# EAGLE library part 62001021821 (library Board-to-Board (rev18a))
WR-PHD 2.00mm Dual Socket Header, 10 Pins=>Code : Con_BTB_SHD_2.00_2_62001021821 <http://katalog.we-online.de/media/thumbs2/eican/thb_Con_BTB_SHD_2.00_2_6200xx21821_pf2.jpg> Details see: http://katalog.we-online.de/en/em/PHD_2_00_DUAL_SOCKET_HEADER_6200XX21821 Created 2014-06-03, Karrer Zheng 2014 (C) Würth Elektronik
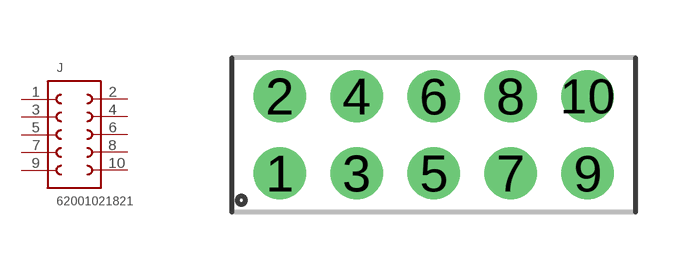
[diagram p246: symbol with the pads of 62001021821; footprint 62001021821]

Designator prefix J

## 62001021821  [62001021821]
1  1  pas
2  10  pas
3  2  pas
4  9  pas
5  3  pas
6  8  pas
7  4  pas
8  7  pas
9  5  pas
10  6  pas

## Footprint 62001021821 (pad centres in mm)
WR-PHD 2.00mm Dual Socket Header, 10 Pins
drill 0.85: 1 -4,-1; 2 -4,1; 3 -2,-1; 4 -2,1; 5 0,-1; 6 0,1; 7 2,-1; 8 2,1; 9 4,-1; 10 4,1